# Altium integrated library ECA1HM100B.IntLib: 1 symbol
Pins are listed as number, name and electrical type; pins without a type are passive.

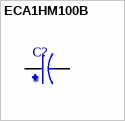
[diagram p0: symbol ECA1HM100B]

## ECA1HM100B
designator C?
10ÂµF 50V Aluminum Electrolytic Capacitors Radial, Can 2000 Hrs @ 85Â°C; MF: Panasonic; MP: ECA1HM100B; SnapEDA_Link: https://www.snapeda.com/parts/ECA1HM100B/Panasonic/view-part/?ref=snap; Package: RADIAL-2 Panasonic; Value: *; Check_prices: https://www.snapeda.com/parts/ECA1HM100B/Panasonic/view-part/?ref=eda
footprint CAPPRD500W50D500H1100
pins: N, P